# Altium schematic symbol library 遥控器原理图库.SCHLIB: 17 symbols
Pins are listed as number, name and electrical type; pins without a type are passive.

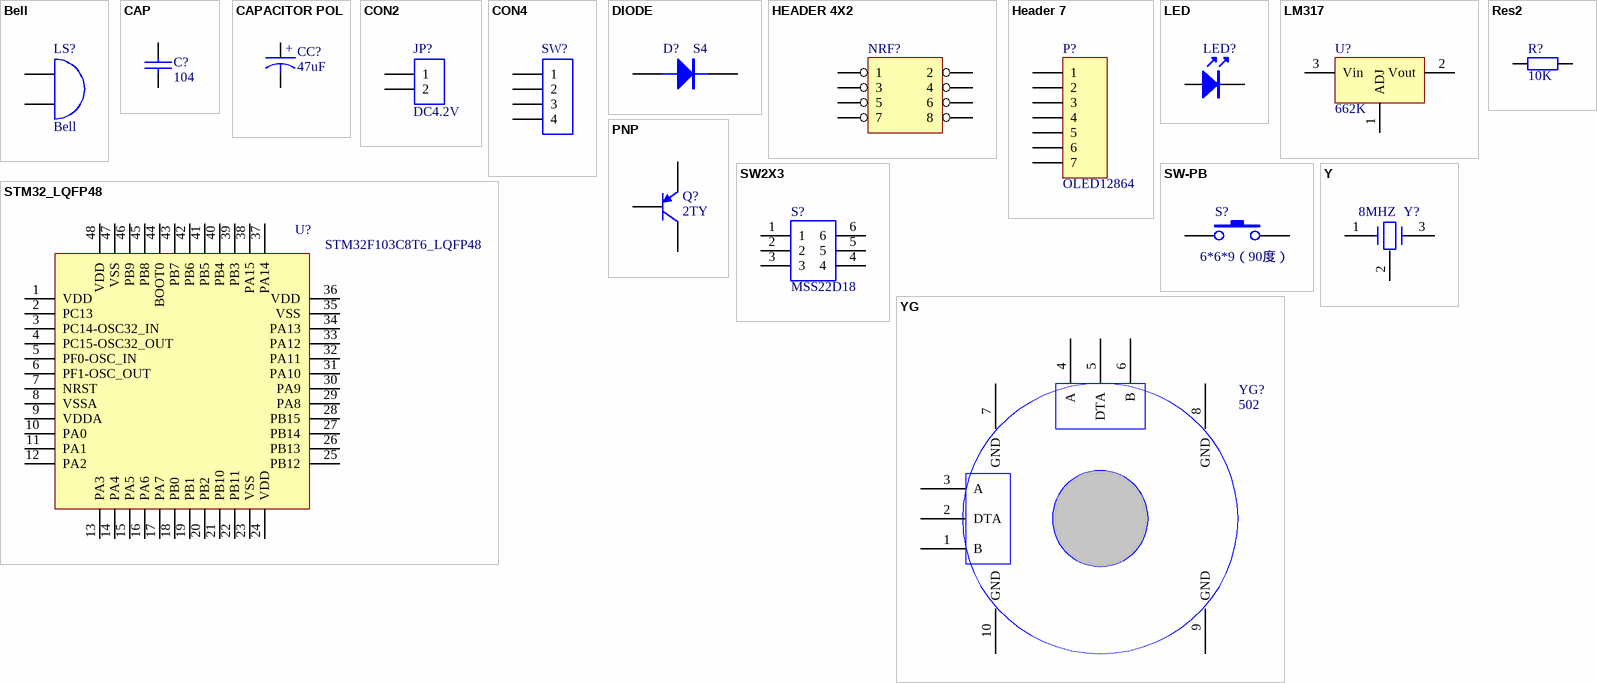
[diagram p0: symbols Bell to YG]

## Bell
designator LS?
Electrical Bell; Published: 24-Mar-1999; LatestRevisionDate: 17-Jul-2002; LatestRevisionNote: Re-released for DXP Platform.; PackageReference: PIN2; Publisher: Altium Limited
footprint PIN2 (Electrical Bell; 2 Leads)
pins: 1 A, 2 B

## CAP
designator C?, comment 104
Capacitor
footprint 0603
pins: 1, 2

## CAPACITOR POL
designator CC?, comment 47uF
Capacitor
footprint c106
pins: 1, 2
2 alternate drawings of the same symbol
text: +

## CON2
designator JP?, comment DC4.2V
Connector
footprint SIP2
pins: 1, 2

## CON4
designator SW?
Connector
footprint SIP4
pins: 1, 2, 3, 4

## DIODE
designator D?, comment S4
Diode
footprint SOD-123
pins: 1 A, 2 K

## HEADER 4X2
designator NRF?
footprint 24L01
pins: 1, 2, 3, 4, 5, 6, 7, 8

## Header 7
designator P?, comment OLED12864
Header, 7-Pin; LatestRevisionDate: 17-Jul-2002; LatestRevisionNote: Re-released for DXP Platform.; Publisher: Altium Limited
footprint SIP7 - - duplicate
pins: 1, 2, 3, 4, 5, 6, 7

## LED
designator LED?
footprint LED0603
pins: 1, 2

## LM317
designator U?, comment 662K
3-Terminal Adjustable Positive Voltage Regulator
simulation model LM317 (SUBCKT)
footprint SOT23-PIN132
pins: 1 ADJ, 2 Vout, 3 Vin

## PNP
designator Q?, comment 2TY
PNP Bipolar Transistor; Published: 8-Jun-2000; LatestRevisionDate: 29-May-2009; LatestRevisionNote: IPC-7351 Footprint Added.; PackageVersion: Aug-1999; PackageReference: SOT-23B; Publisher: Altium Limited; PackageDescription: 3-Pin SOT-23 Package 0.95 mm Pitch, 2.4 mm Lead Span
footprint SOT-23B_N (SOT23, 3-Leads, Body 2.9x1.3mm, Pitch 0.95mm, Lead Span 2.4mm, IPC Medium Density)
footprint SOT-23B_L (SOT23, 3-Leads, Body 2.9x1.3mm, Pitch 0.95mm, Lead Span 2.4mm, IPC High Density)
footprint SOT-23B_M (SOT23, 3-Leads, Body 2.9x1.3mm, Pitch 0.95mm, Lead Span 2.4mm, IPC Low Density)
simulation model PNP
signal-integrity model PNP
pins: 1 C, 2 B, 3 E

## Res2
designator R?, comment value 10K  (hidden comment: 103)
Resistor; Published: 8-Jun-2000; LatestRevisionDate: 17-Jul-2002; LatestRevisionNote: Re-released for DXP Platform.; Publisher: Altium Limited
footprint 0603
pins: 1, 2
2 alternate drawings of the same symbol

## STM32_LQFP48
designator U?, comment STM32F103C8T6_LQFP48
footprint LQFP48_STM32
pins: 1 VDD, 2 PC13, 3 PC14-OSC32_IN, 4 PC15-OSC32_OUT, 5 PF0-OSC_IN, 6 PF1-OSC_OUT, 7 NRST, 8 VSSA, 9 VDDA, 10 PA0, 11 PA1, 12 PA2, 13 PA3, 14 PA4, 15 PA5, 16 PA6, 17 PA7, 18 PB0, 19 PB1, 20 PB2, 21 PB10, 22 PB11, 23 VSS, 24 VDD, 25 PB12, 26 PB13, 27 PB14, 28 PB15, 29 PA8, 30 PA9, 31 PA10, 32 PA11, 33 PA12, 34 PA13, 35 VSS, 36 VDD, 37 PA14, 38 PA15, 39 PB3, 40 PB4, 41 PB5, 42 PB6, 43 PB7, 44 BOOT0, 45 PB8, 46 PB9, 47 VSS, 48 VDD

## SW2X3
designator S?, comment MSS22D18
footprint MSS22D18G2 (Footprint not found)
pins: 1, 2, 3, 4, 5, 6

## SW-PB
designator S?, comment 6*6*9（90度）
footprint FWAL
pins: 1, 2

## Y
designator Y?, comment 8MHZ
footprint XTAL-RAD-0.2 (Radial Cap, Thru-Hole; 2 Leads; 0.2 in Pin Spacing)
pins: 1, 2, 3

## YG
designator YG?, comment 502
footprint GY
pins: 1 B, 2 DTA, 3 A, 4 A, 5 DTA, 6 B, 7 GND, 8 GND, 9 GND, 10 GND